# Altium footprint library Connector_JST.PcbLib: 558 footprints (part 24 of 35)
Each footprint in its own frame and in the unit in brackets; x right, y up, seen from the top. Pads: shape width x height; smd on the part's side, far side on the other; paste and mask are expansions set on the pad; w line width, h text height; cw(c..) or ccw(c..) is an arc to the next point about the centre after c.
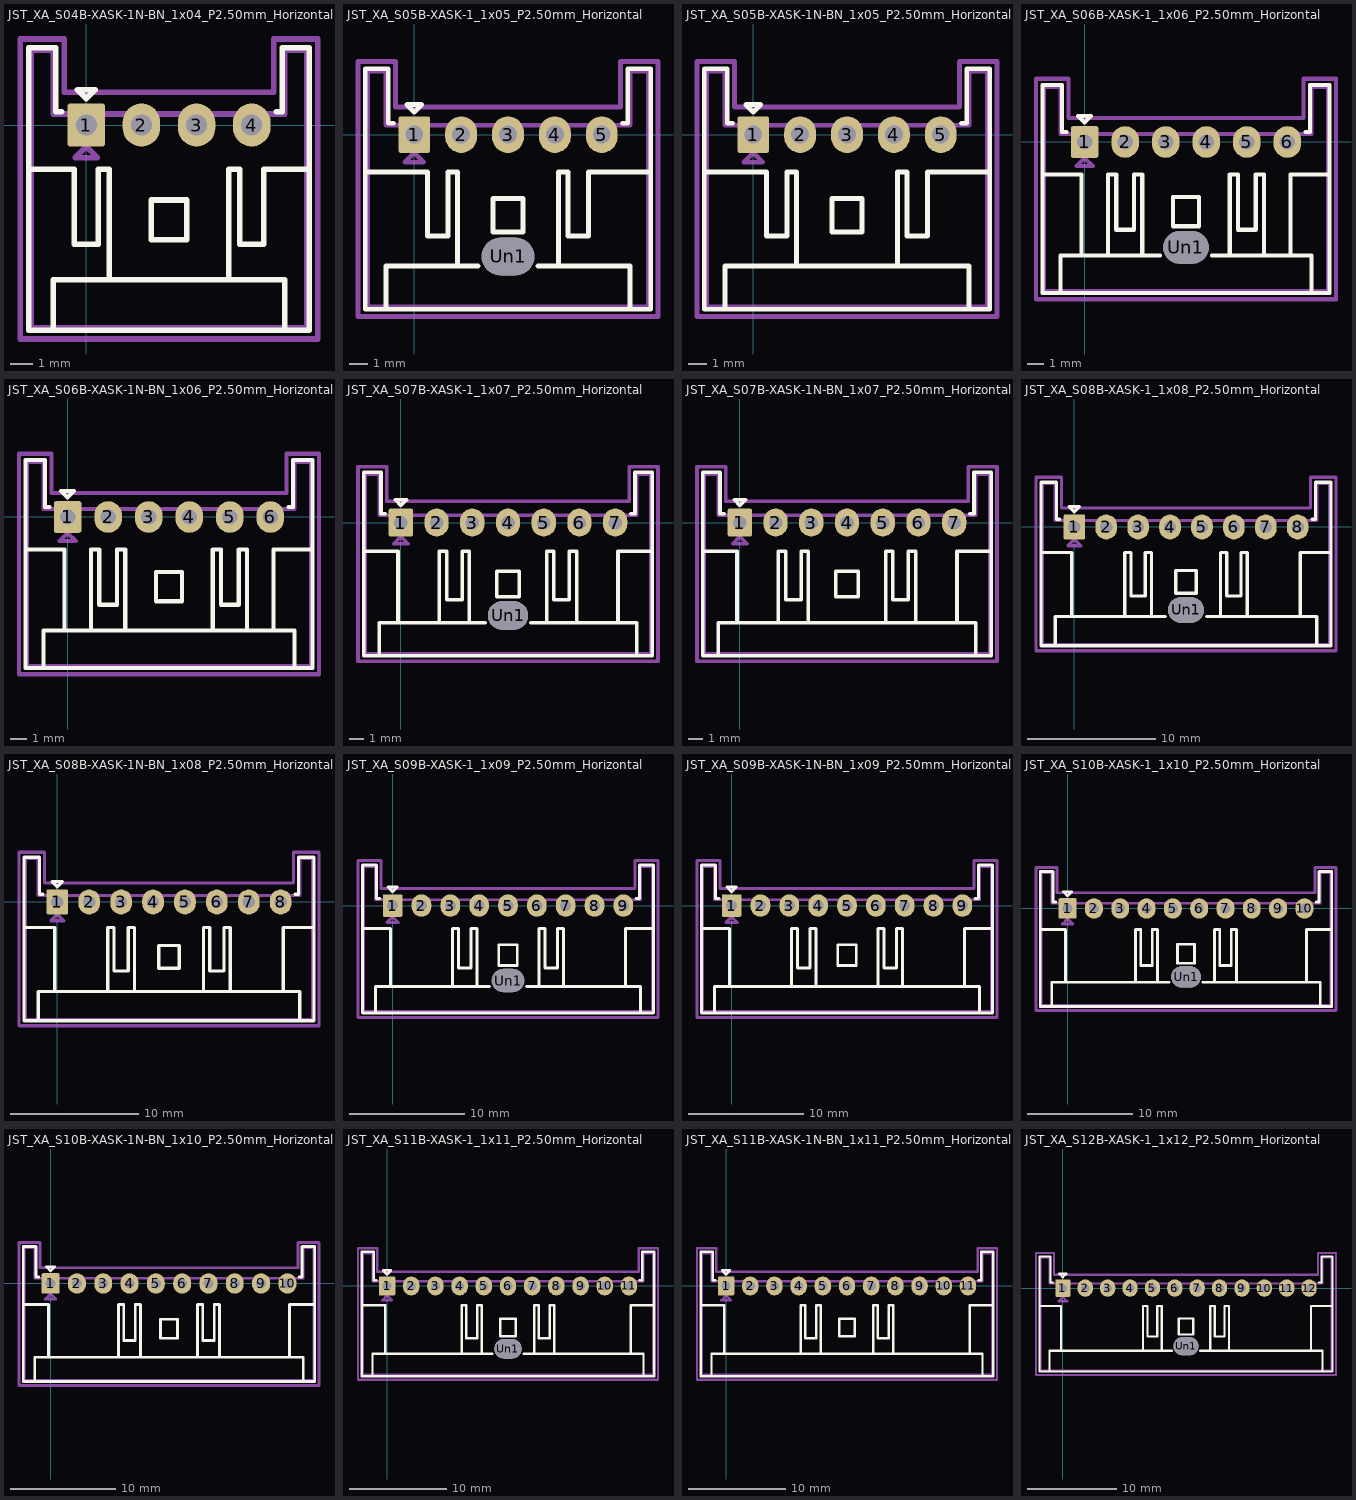
[diagram p23: the footprints below, top view; thin cyan lines are the x and y axes]

## JST_XA_S04B-XASK-1N-BN_1x04_P2.50mm_Horizontal [mm] "JST_XA_S04B-XASK-1N-BN_1x04_P2.50mm_Horizontal"
pads (4):
  rrect15% 1.7x1.95 hole 0.95: 1(0,0)
  rrect100% 1.7x1.95 hole 0.95: 2(2.5,0) 3(5,0) 4(7.5,0)
F.SilkS:
  lines w0.254: -2.61,-2 -0.55,-2 -0.55,-5.41 0.55,-5.41 0.55,-2 1.05,-2 1.05,-7.01 ; -1.5,-9.31 -1.5,-7.01 9,-7.01 9,-9.31 ; -1.11,0.61 -1.39,0.61 -1.39,3.51 -2.61,3.51 -2.61,-9.31 10.11,-9.31 10.11,3.51 8.89,3.51 8.89,0.61 8.61,0.61 ; 6.45,-7.01 6.45,-2 6.95,-2 6.95,-5.41 8.05,-5.41 8.05,-2 10.11,-2 ; -0.4,1.6 0.4,1.6 0,1.2 -0.4,1.6 ; 2.95,-5.2 2.95,-3.4 4.55,-3.4 4.55,-5.2 2.95,-5.2
Top Component Center:
  lines w0.127: -0.127,0 0.127,0 ; 0,-0.127 0,0.127
Top Assembly:
  lines w0.254: -2.5,-9.2 -2.5,3.4 -1.5,3.4 -1.5,0.5 9,0.5 9,3.4 10,3.4 10,-9.2 -2.5,-9.2 ; -0.5,-1.475 0.5,-1.475 0,-0.975 -0.5,-1.475
Top Courtyard:
  lines w0.254: -3,-9.7 -3,3.9 -1,3.9 -1,1.48 8.5,1.48 8.5,3.9 10.5,3.9 10.5,-9.7 -3,-9.7
Top Designator:
  text ".Designator" at 0.38,-1.995 h1.52

## JST_XA_S05B-XASK-1_1x05_P2.50mm_Horizontal [mm] "JST_XA_S05B-XASK-1_1x05_P2.50mm_Horizontal"
pads (6):
  rrect15% 1.7x1.95 hole 0.95: 1(0,0)
  rrect100% 1.7x1.95 hole 0.95: 2(2.5,0) 3(5,0) 4(7.5,0) 5(10,0)
  rrect100% 2.8x2 hole 2 slot 2.8 at 0 deg: Un1(5,-6.5)
F.SilkS:
  lines w0.254: -2.61,-2 0.7,-2 0.7,-5.41 1.8,-5.41 1.8,-2 2.3,-2 2.3,-7.01 ; -1.5,-9.31 -1.5,-7.01 3.4,-7.01 ; -1.11,0.61 -1.39,0.61 -1.39,3.51 -2.61,3.51 -2.61,-9.31 12.61,-9.31 12.61,3.51 11.39,3.51 11.39,0.61 11.11,0.61 ; 6.6,-7.01 11.5,-7.01 11.5,-9.31 ; 7.7,-7.01 7.7,-2 8.2,-2 8.2,-5.41 9.3,-5.41 9.3,-2 12.61,-2 ; -0.4,1.6 0,1.2 0.4,1.6 -0.4,1.6 ; 4.2,-5.2 5.8,-5.2 5.8,-3.4 4.2,-3.4 4.2,-5.2
Top Component Center:
  lines w0.127: -0.127,0 0.127,0 ; 0,-0.127 0,0.127
Top Assembly:
  lines w0.254: -2.5,-9.2 12.5,-9.2 12.5,3.4 11.5,3.4 11.5,0.5 -1.5,0.5 -1.5,3.4 -2.5,3.4 -2.5,-9.2 ; -0.5,-1.475 0,-0.975 0.5,-1.475 -0.5,-1.475
Top Courtyard:
  lines w0.254: -3,-9.7 13,-9.7 13,3.9 11,3.9 11,1.48 -1,1.48 -1,3.9 -3,3.9 -3,-9.7
Top Designator:
  text ".Designator" at 1.523,-1.868 h1.52

## JST_XA_S05B-XASK-1N-BN_1x05_P2.50mm_Horizontal [mm] "JST_XA_S05B-XASK-1N-BN_1x05_P2.50mm_Horizontal"
pads (5):
  rrect15% 1.7x1.95 hole 0.95: 1(0,0)
  rrect100% 1.7x1.95 hole 0.95: 2(2.5,0) 3(5,0) 4(7.5,0) 5(10,0)
F.SilkS:
  lines w0.254: -2.61,-2 0.7,-2 0.7,-5.41 1.8,-5.41 1.8,-2 2.3,-2 2.3,-7.01 ; -1.5,-9.31 -1.5,-7.01 11.5,-7.01 11.5,-9.31 ; -1.11,0.61 -1.39,0.61 -1.39,3.51 -2.61,3.51 -2.61,-9.31 12.61,-9.31 12.61,3.51 11.39,3.51 11.39,0.61 11.11,0.61 ; 7.7,-7.01 7.7,-2 8.2,-2 8.2,-5.41 9.3,-5.41 9.3,-2 12.61,-2 ; -0.4,1.6 0.4,1.6 0,1.2 -0.4,1.6 ; 4.2,-5.2 4.2,-3.4 5.8,-3.4 5.8,-5.2 4.2,-5.2
Top Component Center:
  lines w0.127: -0.127,0 0.127,0 ; 0,-0.127 0,0.127
Top Assembly:
  lines w0.254: -2.5,-9.2 -2.5,3.4 -1.5,3.4 -1.5,0.5 11.5,0.5 11.5,3.4 12.5,3.4 12.5,-9.2 -2.5,-9.2 ; -0.5,-1.475 0.5,-1.475 0,-0.975 -0.5,-1.475
Top Courtyard:
  lines w0.254: -3,-9.7 -3,3.9 -1,3.9 -1,1.48 11,1.48 11,3.9 13,3.9 13,-9.7 -3,-9.7
Top Designator:
  text ".Designator" at 1.65,-1.995 h1.52

## JST_XA_S06B-XASK-1_1x06_P2.50mm_Horizontal [mm] "JST_XA_S06B-XASK-1_1x06_P2.50mm_Horizontal"
pads (7):
  rrect15% 1.7x1.95 hole 0.95: 1(0,0)
  rrect100% 1.7x1.95 hole 0.95: 2(2.5,0) 3(5,0) 4(7.5,0) 5(10,0) 6(12.5,0)
  rrect100% 2.8x2 hole 2 slot 2.8 at 0 deg: Un1(6.25,-6.5)
F.SilkS:
  lines w0.254: -2.61,-2 -0.2,-2 -0.2,-7.01 ; -1.5,-9.31 -1.5,-7.01 4.65,-7.01 ; -1.11,0.61 -1.39,0.61 -1.39,3.51 -2.61,3.51 -2.61,-9.31 15.11,-9.31 15.11,3.51 13.89,3.51 13.89,0.61 13.61,0.61 ; 1.45,-7.01 1.45,-2 1.95,-2 1.95,-5.41 3.05,-5.41 3.05,-2 3.55,-2 3.55,-7.01 ; 7.85,-7.01 14,-7.01 14,-9.31 ; 8.95,-7.01 8.95,-2 9.45,-2 9.45,-5.41 10.55,-5.41 10.55,-2 11.05,-2 11.05,-7.01 ; 12.7,-7.01 12.7,-2 15.11,-2 ; -0.4,1.6 0,1.2 0.4,1.6 -0.4,1.6 ; 5.45,-5.2 7.05,-5.2 7.05,-3.4 5.45,-3.4 5.45,-5.2
Top Component Center:
  lines w0.127: -0.127,0 0.127,0 ; 0,-0.127 0,0.127
Top Assembly:
  lines w0.254: -2.5,-9.2 15,-9.2 15,3.4 14,3.4 14,0.5 -1.5,0.5 -1.5,3.4 -2.5,3.4 -2.5,-9.2 ; -0.5,-1.475 0,-0.975 0.5,-1.475 -0.5,-1.475
Top Courtyard:
  lines w0.254: -3,-9.7 15.5,-9.7 15.5,3.9 13.5,3.9 13.5,1.48 -1,1.48 -1,3.9 -3,3.9 -3,-9.7
Top Designator:
  text ".Designator" at 2.666,-1.868 h1.52

## JST_XA_S06B-XASK-1N-BN_1x06_P2.50mm_Horizontal [mm] "JST_XA_S06B-XASK-1N-BN_1x06_P2.50mm_Horizontal"
pads (6):
  rrect15% 1.7x1.95 hole 0.95: 1(0,0)
  rrect100% 1.7x1.95 hole 0.95: 2(2.5,0) 3(5,0) 4(7.5,0) 5(10,0) 6(12.5,0)
F.SilkS:
  lines w0.254: -2.61,-2 -0.2,-2 -0.2,-7.01 ; -1.5,-9.31 -1.5,-7.01 14,-7.01 14,-9.31 ; -1.11,0.61 -1.39,0.61 -1.39,3.51 -2.61,3.51 -2.61,-9.31 15.11,-9.31 15.11,3.51 13.89,3.51 13.89,0.61 13.61,0.61 ; 1.45,-7.01 1.45,-2 1.95,-2 1.95,-5.41 3.05,-5.41 3.05,-2 3.55,-2 3.55,-7.01 ; 8.95,-7.01 8.95,-2 9.45,-2 9.45,-5.41 10.55,-5.41 10.55,-2 11.05,-2 11.05,-7.01 ; 12.7,-7.01 12.7,-2 15.11,-2 ; -0.4,1.6 0,1.2 0.4,1.6 -0.4,1.6 ; 5.45,-5.2 7.05,-5.2 7.05,-3.4 5.45,-3.4 5.45,-5.2
Top Component Center:
  lines w0.127: -0.127,0 0.127,0 ; 0,-0.127 0,0.127
Top Assembly:
  lines w0.254: -2.5,-9.2 15,-9.2 15,3.4 14,3.4 14,0.5 -1.5,0.5 -1.5,3.4 -2.5,3.4 -2.5,-9.2 ; -0.5,-1.475 0,-0.975 0.5,-1.475 -0.5,-1.475
Top Courtyard:
  lines w0.254: -3,-9.7 15.5,-9.7 15.5,3.9 13.5,3.9 13.5,1.48 -1,1.48 -1,3.9 -3,3.9 -3,-9.7
Top Designator:
  text ".Designator" at 2.539,-1.868 h1.52

## JST_XA_S07B-XASK-1_1x07_P2.50mm_Horizontal [mm] "JST_XA_S07B-XASK-1_1x07_P2.50mm_Horizontal"
pads (8):
  rrect15% 1.7x1.95 hole 0.95: 1(0,0)
  rrect100% 1.7x1.95 hole 0.95: 2(2.5,0) 3(5,0) 4(7.5,0) 5(10,0) 6(12.5,0) 7(15,0)
  rrect100% 2.8x2 hole 2 slot 2.8 at 0 deg: Un1(7.5,-6.5)
F.SilkS:
  lines w0.254: -2.61,-2 -0.2,-2 -0.2,-7.01 ; -1.5,-9.31 -1.5,-7.01 5.9,-7.01 ; -1.11,0.61 -1.39,0.61 -1.39,3.51 -2.61,3.51 -2.61,-9.31 17.61,-9.31 17.61,3.51 16.39,3.51 16.39,0.61 16.11,0.61 ; 2.7,-7.01 2.7,-2 3.2,-2 3.2,-5.41 4.3,-5.41 4.3,-2 4.8,-2 4.8,-7.01 ; 9.1,-7.01 16.5,-7.01 16.5,-9.31 ; 10.2,-7.01 10.2,-2 10.7,-2 10.7,-5.41 11.8,-5.41 11.8,-2 12.3,-2 12.3,-7.01 ; 15.2,-7.01 15.2,-2 17.61,-2 ; -0.4,1.6 0,1.2 0.4,1.6 -0.4,1.6 ; 6.7,-5.2 8.3,-5.2 8.3,-3.4 6.7,-3.4 6.7,-5.2
Top Component Center:
  lines w0.127: -0.127,0 0.127,0 ; 0,-0.127 0,0.127
Top Assembly:
  lines w0.254: -2.5,-9.2 17.5,-9.2 17.5,3.4 16.5,3.4 16.5,0.5 -1.5,0.5 -1.5,3.4 -2.5,3.4 -2.5,-9.2 ; -0.5,-1.475 0,-0.975 0.5,-1.475 -0.5,-1.475
Top Courtyard:
  lines w0.254: -3,-9.7 18,-9.7 18,3.9 16,3.9 16,1.48 -1,1.48 -1,3.9 -3,3.9 -3,-9.7
Top Designator:
  text ".Designator" at 3.936,-1.995 h1.52

## JST_XA_S07B-XASK-1N-BN_1x07_P2.50mm_Horizontal [mm] "JST_XA_S07B-XASK-1N-BN_1x07_P2.50mm_Horizontal"
pads (7):
  rrect15% 1.7x1.95 hole 0.95: 1(0,0)
  rrect100% 1.7x1.95 hole 0.95: 2(2.5,0) 3(5,0) 4(7.5,0) 5(10,0) 6(12.5,0) 7(15,0)
F.SilkS:
  lines w0.254: -2.61,-2 -0.2,-2 -0.2,-7.01 ; -1.5,-9.31 -1.5,-7.01 16.5,-7.01 16.5,-9.31 ; -1.11,0.61 -1.39,0.61 -1.39,3.51 -2.61,3.51 -2.61,-9.31 17.61,-9.31 17.61,3.51 16.39,3.51 16.39,0.61 16.11,0.61 ; 2.7,-7.01 2.7,-2 3.2,-2 3.2,-5.41 4.3,-5.41 4.3,-2 4.8,-2 4.8,-7.01 ; 10.2,-7.01 10.2,-2 10.7,-2 10.7,-5.41 11.8,-5.41 11.8,-2 12.3,-2 12.3,-7.01 ; 15.2,-7.01 15.2,-2 17.61,-2 ; -0.4,1.6 0.4,1.6 0,1.2 -0.4,1.6 ; 6.7,-5.2 6.7,-3.4 8.3,-3.4 8.3,-5.2 6.7,-5.2
Top Component Center:
  lines w0.127: -0.127,0 0.127,0 ; 0,-0.127 0,0.127
Top Assembly:
  lines w0.254: -2.5,-9.2 -2.5,3.4 -1.5,3.4 -1.5,0.5 16.5,0.5 16.5,3.4 17.5,3.4 17.5,-9.2 -2.5,-9.2 ; -0.5,-1.475 0.5,-1.475 0,-0.975 -0.5,-1.475
Top Courtyard:
  lines w0.254: -3,-9.7 -3,3.9 -1,3.9 -1,1.48 16,1.48 16,3.9 18,3.9 18,-9.7 -3,-9.7
Top Designator:
  text ".Designator" at 4.07,-3.244 h1.52

## JST_XA_S08B-XASK-1_1x08_P2.50mm_Horizontal [mm] "JST_XA_S08B-XASK-1_1x08_P2.50mm_Horizontal"
pads (9):
  rrect15% 1.7x1.95 hole 0.95: 1(0,0)
  rrect100% 1.7x1.95 hole 0.95: 2(2.5,0) 3(5,0) 4(7.5,0) 5(10,0) 6(12.5,0) 7(15,0) 8(17.5,0)
  rrect100% 2.8x2 hole 2 slot 2.8 at 0 deg: Un1(8.75,-6.5)
F.SilkS:
  lines w0.254: -2.61,-2 -0.2,-2 -0.2,-7.01 ; -1.5,-9.31 -1.5,-7.01 7.15,-7.01 ; -1.11,0.61 -1.39,0.61 -1.39,3.51 -2.61,3.51 -2.61,-9.31 20.11,-9.31 20.11,3.51 18.89,3.51 18.89,0.61 18.61,0.61 ; 3.95,-7.01 3.95,-2 4.45,-2 4.45,-5.41 5.55,-5.41 5.55,-2 6.05,-2 6.05,-7.01 ; 10.35,-7.01 19,-7.01 19,-9.31 ; 11.45,-7.01 11.45,-2 11.95,-2 11.95,-5.41 13.05,-5.41 13.05,-2 13.55,-2 13.55,-7.01 ; 17.7,-7.01 17.7,-2 20.11,-2 ; -0.4,1.6 0.4,1.6 0,1.2 -0.4,1.6 ; 7.95,-5.2 7.95,-3.4 9.55,-3.4 9.55,-5.2 7.95,-5.2
Top Component Center:
  lines w0.127: -0.127,0 0.127,0 ; 0,-0.127 0,0.127
Top Assembly:
  lines w0.254: -2.5,-9.2 -2.5,3.4 -1.5,3.4 -1.5,0.5 19,0.5 19,3.4 20,3.4 20,-9.2 -2.5,-9.2 ; -0.5,-1.475 0.5,-1.475 0,-0.975 -0.5,-1.475
Top Courtyard:
  lines w0.254: -3,-9.7 -3,3.9 -1,3.9 -1,1.48 18.5,1.48 18.5,3.9 20.5,3.9 20.5,-9.7 -3,-9.7
Top Designator:
  text ".Designator" at 5.206,-1.868 h1.52

## JST_XA_S08B-XASK-1N-BN_1x08_P2.50mm_Horizontal [mm] "JST_XA_S08B-XASK-1N-BN_1x08_P2.50mm_Horizontal"
pads (8):
  rrect15% 1.7x1.95 hole 0.95: 1(0,0)
  rrect100% 1.7x1.95 hole 0.95: 2(2.5,0) 3(5,0) 4(7.5,0) 5(10,0) 6(12.5,0) 7(15,0) 8(17.5,0)
F.SilkS:
  lines w0.254: -2.61,-2 -0.2,-2 -0.2,-7.01 ; -1.5,-9.31 -1.5,-7.01 19,-7.01 19,-9.31 ; -1.11,0.61 -1.39,0.61 -1.39,3.51 -2.61,3.51 -2.61,-9.31 20.11,-9.31 20.11,3.51 18.89,3.51 18.89,0.61 18.61,0.61 ; 3.95,-7.01 3.95,-2 4.45,-2 4.45,-5.41 5.55,-5.41 5.55,-2 6.05,-2 6.05,-7.01 ; 11.45,-7.01 11.45,-2 11.95,-2 11.95,-5.41 13.05,-5.41 13.05,-2 13.55,-2 13.55,-7.01 ; 17.7,-7.01 17.7,-2 20.11,-2 ; -0.4,1.6 0,1.2 0.4,1.6 -0.4,1.6 ; 7.95,-5.2 9.55,-5.2 9.55,-3.4 7.95,-3.4 7.95,-5.2
Top Component Center:
  lines w0.127: -0.127,0 0.127,0 ; 0,-0.127 0,0.127
Top Assembly:
  lines w0.254: -2.5,-9.2 20,-9.2 20,3.4 19,3.4 19,0.5 -1.5,0.5 -1.5,3.4 -2.5,3.4 -2.5,-9.2 ; -0.5,-1.475 0,-0.975 0.5,-1.475 -0.5,-1.475
Top Courtyard:
  lines w0.254: -3,-9.7 20.5,-9.7 20.5,3.9 18.5,3.9 18.5,1.48 -1,1.48 -1,3.9 -3,3.9 -3,-9.7
Top Designator:
  text ".Designator" at 5.206,-1.995 h1.52

## JST_XA_S09B-XASK-1_1x09_P2.50mm_Horizontal [mm] "JST_XA_S09B-XASK-1_1x09_P2.50mm_Horizontal"
pads (10):
  rrect15% 1.7x1.95 hole 0.95: 1(0,0)
  rrect100% 1.7x1.95 hole 0.95: 2(2.5,0) 3(5,0) 4(7.5,0) 5(10,0) 6(12.5,0) 7(15,0) 8(17.5,0) 9(20,0)
  rrect100% 2.8x2 hole 2 slot 2.8 at 0 deg: Un1(10,-6.5)
F.SilkS:
  lines w0.254: -2.61,-2 -0.2,-2 -0.2,-7.01 ; -1.5,-9.31 -1.5,-7.01 8.4,-7.01 ; -1.11,0.61 -1.39,0.61 -1.39,3.51 -2.61,3.51 -2.61,-9.31 22.61,-9.31 22.61,3.51 21.39,3.51 21.39,0.61 21.11,0.61 ; 5.2,-7.01 5.2,-2 5.7,-2 5.7,-5.41 6.8,-5.41 6.8,-2 7.3,-2 7.3,-7.01 ; 11.6,-7.01 21.5,-7.01 21.5,-9.31 ; 12.7,-7.01 12.7,-2 13.2,-2 13.2,-5.41 14.3,-5.41 14.3,-2 14.8,-2 14.8,-7.01 ; 20.2,-7.01 20.2,-2 22.61,-2 ; -0.4,1.6 0.4,1.6 0,1.2 -0.4,1.6 ; 9.2,-5.2 9.2,-3.4 10.8,-3.4 10.8,-5.2 9.2,-5.2
Top Component Center:
  lines w0.127: -0.127,0 0.127,0 ; 0,-0.127 0,0.127
Top Assembly:
  lines w0.254: -2.5,-9.2 -2.5,3.4 -1.5,3.4 -1.5,0.5 21.5,0.5 21.5,3.4 22.5,3.4 22.5,-9.2 -2.5,-9.2 ; -0.5,-1.475 0.5,-1.475 0,-0.975 -0.5,-1.475
Top Courtyard:
  lines w0.254: -3,-9.7 -3,3.9 -1,3.9 -1,1.48 21,1.48 21,3.9 23,3.9 23,-9.7 -3,-9.7
Top Designator:
  text ".Designator" at 6.476,-1.995 h1.52

## JST_XA_S09B-XASK-1N-BN_1x09_P2.50mm_Horizontal [mm] "JST_XA_S09B-XASK-1N-BN_1x09_P2.50mm_Horizontal"
pads (9):
  rrect15% 1.7x1.95 hole 0.95: 1(0,0)
  rrect100% 1.7x1.95 hole 0.95: 2(2.5,0) 3(5,0) 4(7.5,0) 5(10,0) 6(12.5,0) 7(15,0) 8(17.5,0) 9(20,0)
F.SilkS:
  lines w0.254: -2.61,-2 -0.2,-2 -0.2,-7.01 ; -1.5,-9.31 -1.5,-7.01 21.5,-7.01 21.5,-9.31 ; -1.11,0.61 -1.39,0.61 -1.39,3.51 -2.61,3.51 -2.61,-9.31 22.61,-9.31 22.61,3.51 21.39,3.51 21.39,0.61 21.11,0.61 ; 5.2,-7.01 5.2,-2 5.7,-2 5.7,-5.41 6.8,-5.41 6.8,-2 7.3,-2 7.3,-7.01 ; 12.7,-7.01 12.7,-2 13.2,-2 13.2,-5.41 14.3,-5.41 14.3,-2 14.8,-2 14.8,-7.01 ; 20.2,-7.01 20.2,-2 22.61,-2 ; -0.4,1.6 0,1.2 0.4,1.6 -0.4,1.6 ; 9.2,-5.2 10.8,-5.2 10.8,-3.4 9.2,-3.4 9.2,-5.2
Top Component Center:
  lines w0.127: -0.127,0 0.127,0 ; 0,-0.127 0,0.127
Top Assembly:
  lines w0.254: -2.5,-9.2 22.5,-9.2 22.5,3.4 21.5,3.4 21.5,0.5 -1.5,0.5 -1.5,3.4 -2.5,3.4 -2.5,-9.2 ; -0.5,-1.475 0,-0.975 0.5,-1.475 -0.5,-1.475
Top Courtyard:
  lines w0.254: -3,-9.7 23,-9.7 23,3.9 21,3.9 21,1.48 -1,1.48 -1,3.9 -3,3.9 -3,-9.7
Top Designator:
  text ".Designator" at 6.476,-1.995 h1.52

## JST_XA_S10B-XASK-1_1x10_P2.50mm_Horizontal [mm] "JST_XA_S10B-XASK-1_1x10_P2.50mm_Horizontal"
pads (11):
  rrect15% 1.7x1.95 hole 0.95: 1(0,0)
  rrect100% 1.7x1.95 hole 0.95: 2(2.5,0) 3(5,0) 4(7.5,0) 5(10,0) 6(12.5,0) 7(15,0) 8(17.5,0) 9(20,0) 10(22.5,0)
  rrect100% 2.8x2 hole 2 slot 2.8 at 0 deg: Un1(11.25,-6.5)
F.SilkS:
  lines w0.254: -2.61,-2 -0.2,-2 -0.2,-7.01 ; -1.5,-9.31 -1.5,-7.01 9.65,-7.01 ; -1.11,0.61 -1.39,0.61 -1.39,3.51 -2.61,3.51 -2.61,-9.31 25.11,-9.31 25.11,3.51 23.89,3.51 23.89,0.61 23.61,0.61 ; 6.45,-7.01 6.45,-2 6.95,-2 6.95,-5.41 8.05,-5.41 8.05,-2 8.55,-2 8.55,-7.01 ; 12.85,-7.01 24,-7.01 24,-9.31 ; 13.95,-7.01 13.95,-2 14.45,-2 14.45,-5.41 15.55,-5.41 15.55,-2 16.05,-2 16.05,-7.01 ; 22.7,-7.01 22.7,-2 25.11,-2 ; -0.4,1.6 0,1.2 0.4,1.6 -0.4,1.6 ; 10.45,-5.2 12.05,-5.2 12.05,-3.4 10.45,-3.4 10.45,-5.2
Top Component Center:
  lines w0.127: -0.127,0 0.127,0 ; 0,-0.127 0,0.127
Top Assembly:
  lines w0.254: -2.5,-9.2 25,-9.2 25,3.4 24,3.4 24,0.5 -1.5,0.5 -1.5,3.4 -2.5,3.4 -2.5,-9.2 ; -0.5,-1.475 0,-0.975 0.5,-1.475 -0.5,-1.475
Top Courtyard:
  lines w0.254: -3,-9.7 25.5,-9.7 25.5,3.9 23.5,3.9 23.5,1.48 -1,1.48 -1,3.9 -3,3.9 -3,-9.7
Top Designator:
  text ".Designator" at 7.746,-1.995 h1.52

## JST_XA_S10B-XASK-1N-BN_1x10_P2.50mm_Horizontal [mm] "JST_XA_S10B-XASK-1N-BN_1x10_P2.50mm_Horizontal"
pads (10):
  rrect15% 1.7x1.95 hole 0.95: 1(0,0)
  rrect100% 1.7x1.95 hole 0.95: 2(2.5,0) 3(5,0) 4(7.5,0) 5(10,0) 6(12.5,0) 7(15,0) 8(17.5,0) 9(20,0) 10(22.5,0)
F.SilkS:
  lines w0.254: -2.61,-2 -0.2,-2 -0.2,-7.01 ; -1.5,-9.31 -1.5,-7.01 24,-7.01 24,-9.31 ; -1.11,0.61 -1.39,0.61 -1.39,3.51 -2.61,3.51 -2.61,-9.31 25.11,-9.31 25.11,3.51 23.89,3.51 23.89,0.61 23.61,0.61 ; 6.45,-7.01 6.45,-2 6.95,-2 6.95,-5.41 8.05,-5.41 8.05,-2 8.55,-2 8.55,-7.01 ; 13.95,-7.01 13.95,-2 14.45,-2 14.45,-5.41 15.55,-5.41 15.55,-2 16.05,-2 16.05,-7.01 ; 22.7,-7.01 22.7,-2 25.11,-2 ; -0.4,1.6 0.4,1.6 0,1.2 -0.4,1.6 ; 10.45,-5.2 10.45,-3.4 12.05,-3.4 12.05,-5.2 10.45,-5.2
Top Component Center:
  lines w0.127: -0.127,0 0.127,0 ; 0,-0.127 0,0.127
Top Assembly:
  lines w0.254: -2.5,-9.2 -2.5,3.4 -1.5,3.4 -1.5,0.5 24,0.5 24,3.4 25,3.4 25,-9.2 -2.5,-9.2 ; -0.5,-1.475 0.5,-1.475 0,-0.975 -0.5,-1.475
Top Courtyard:
  lines w0.254: -3,-9.7 -3,3.9 -1,3.9 -1,1.48 23.5,1.48 23.5,3.9 25.5,3.9 25.5,-9.7 -3,-9.7
Top Designator:
  text ".Designator" at 7.746,-1.868 h1.52

## JST_XA_S11B-XASK-1_1x11_P2.50mm_Horizontal [mm] "JST_XA_S11B-XASK-1_1x11_P2.50mm_Horizontal"
pads (12):
  rrect15% 1.7x1.95 hole 0.95: 1(0,0)
  rrect100% 1.7x1.95 hole 0.95: 2(2.5,0) 3(5,0) 4(7.5,0) 5(10,0) 6(12.5,0) 7(15,0) 8(17.5,0) 9(20,0) 10(22.5,0) 11(25,0)
  rrect100% 2.8x2 hole 2 slot 2.8 at 0 deg: Un1(12.5,-6.5)
F.SilkS:
  lines w0.254: -2.61,-2 -0.2,-2 -0.2,-7.01 ; -1.5,-9.31 -1.5,-7.01 10.9,-7.01 ; -1.11,0.61 -1.39,0.61 -1.39,3.51 -2.61,3.51 -2.61,-9.31 27.61,-9.31 27.61,3.51 26.39,3.51 26.39,0.61 26.11,0.61 ; 7.7,-7.01 7.7,-2 8.2,-2 8.2,-5.41 9.3,-5.41 9.3,-2 9.8,-2 9.8,-7.01 ; 14.1,-7.01 26.5,-7.01 26.5,-9.31 ; 15.2,-7.01 15.2,-2 15.7,-2 15.7,-5.41 16.8,-5.41 16.8,-2 17.3,-2 17.3,-7.01 ; 25.2,-7.01 25.2,-2 27.61,-2 ; -0.4,1.6 0.4,1.6 0,1.2 -0.4,1.6 ; 11.7,-5.2 11.7,-3.4 13.3,-3.4 13.3,-5.2 11.7,-5.2
Top Component Center:
  lines w0.127: -0.127,0 0.127,0 ; 0,-0.127 0,0.127
Top Assembly:
  lines w0.254: -2.5,-9.2 -2.5,3.4 -1.5,3.4 -1.5,0.5 26.5,0.5 26.5,3.4 27.5,3.4 27.5,-9.2 -2.5,-9.2 ; -0.5,-1.475 0.5,-1.475 0,-0.975 -0.5,-1.475
Top Courtyard:
  lines w0.254: -3,-9.7 -3,3.9 -1,3.9 -1,1.48 26,1.48 26,3.9 28,3.9 28,-9.7 -3,-9.7
Top Designator:
  text ".Designator" at 9.143,-1.995 h1.52

## JST_XA_S11B-XASK-1N-BN_1x11_P2.50mm_Horizontal [mm] "JST_XA_S11B-XASK-1N-BN_1x11_P2.50mm_Horizontal"
pads (11):
  rrect15% 1.7x1.95 hole 0.95: 1(0,0)
  rrect100% 1.7x1.95 hole 0.95: 2(2.5,0) 3(5,0) 4(7.5,0) 5(10,0) 6(12.5,0) 7(15,0) 8(17.5,0) 9(20,0) 10(22.5,0) 11(25,0)
F.SilkS:
  lines w0.254: -2.61,-2 -0.2,-2 -0.2,-7.01 ; -1.5,-9.31 -1.5,-7.01 26.5,-7.01 26.5,-9.31 ; -1.11,0.61 -1.39,0.61 -1.39,3.51 -2.61,3.51 -2.61,-9.31 27.61,-9.31 27.61,3.51 26.39,3.51 26.39,0.61 26.11,0.61 ; 7.7,-7.01 7.7,-2 8.2,-2 8.2,-5.41 9.3,-5.41 9.3,-2 9.8,-2 9.8,-7.01 ; 15.2,-7.01 15.2,-2 15.7,-2 15.7,-5.41 16.8,-5.41 16.8,-2 17.3,-2 17.3,-7.01 ; 25.2,-7.01 25.2,-2 27.61,-2 ; -0.4,1.6 0.4,1.6 0,1.2 -0.4,1.6 ; 11.7,-5.2 11.7,-3.4 13.3,-3.4 13.3,-5.2 11.7,-5.2
Top Component Center:
  lines w0.127: -0.127,0 0.127,0 ; 0,-0.127 0,0.127
Top Assembly:
  lines w0.254: -2.5,-9.2 -2.5,3.4 -1.5,3.4 -1.5,0.5 26.5,0.5 26.5,3.4 27.5,3.4 27.5,-9.2 -2.5,-9.2 ; -0.5,-1.475 0.5,-1.475 0,-0.975 -0.5,-1.475
Top Courtyard:
  lines w0.254: -3,-9.7 -3,3.9 -1,3.9 -1,1.48 26,1.48 26,3.9 28,3.9 28,-9.7 -3,-9.7
Top Designator:
  text ".Designator" at 9.016,-1.868 h1.52

## JST_XA_S12B-XASK-1_1x12_P2.50mm_Horizontal [mm] "JST_XA_S12B-XASK-1_1x12_P2.50mm_Horizontal"
pads (13):
  rrect15% 1.7x1.95 hole 0.95: 1(0,0)
  rrect100% 1.7x1.95 hole 0.95: 2(2.5,0) 3(5,0) 4(7.5,0) 5(10,0) 6(12.5,0) 7(15,0) 8(17.5,0) 9(20,0) 10(22.5,0) 11(25,0) 12(27.5,0)
  rrect100% 2.8x2 hole 2 slot 2.8 at 0 deg: Un1(13.75,-6.5)
F.SilkS:
  lines w0.254: -2.61,-2 -0.2,-2 -0.2,-7.01 ; -1.5,-9.31 -1.5,-7.01 12.15,-7.01 ; -1.11,0.61 -1.39,0.61 -1.39,3.51 -2.61,3.51 -2.61,-9.31 30.11,-9.31 30.11,3.51 28.89,3.51 28.89,0.61 28.61,0.61 ; 8.95,-7.01 8.95,-2 9.45,-2 9.45,-5.41 10.55,-5.41 10.55,-2 11.05,-2 11.05,-7.01 ; 15.35,-7.01 29,-7.01 29,-9.31 ; 16.45,-7.01 16.45,-2 16.95,-2 16.95,-5.41 18.05,-5.41 18.05,-2 18.55,-2 18.55,-7.01 ; 27.7,-7.01 27.7,-2 30.11,-2 ; -0.4,1.6 0.4,1.6 0,1.2 -0.4,1.6 ; 12.95,-5.2 12.95,-3.4 14.55,-3.4 14.55,-5.2 12.95,-5.2
Top Component Center:
  lines w0.127: -0.127,0 0.127,0 ; 0,-0.127 0,0.127
Top Assembly:
  lines w0.254: -2.5,-9.2 -2.5,3.4 -1.5,3.4 -1.5,0.5 29,0.5 29,3.4 30,3.4 30,-9.2 -2.5,-9.2 ; -0.5,-1.475 0.5,-1.475 0,-0.975 -0.5,-1.475
Top Courtyard:
  lines w0.254: -3,-9.7 -3,3.9 -1,3.9 -1,1.48 28.5,1.48 28.5,3.9 30.5,3.9 30.5,-9.7 -3,-9.7
Top Designator:
  text ".Designator" at 10.413,-2.249 h1.52